# EAGLE library part SOMO_4D_AUDIO (library moja testowa biblioteka)
bla bla bl;a bla bla
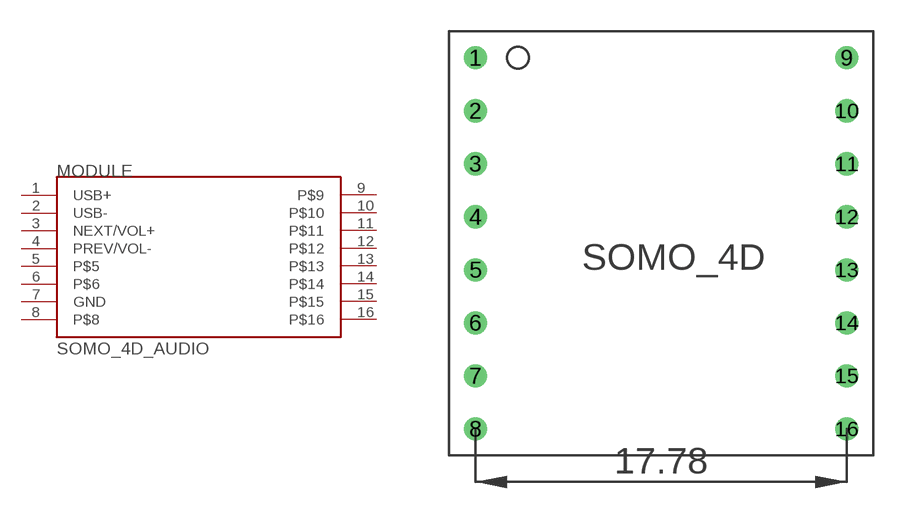
[diagram p0: symbol with the pads of SOMO_MODULE; footprint SOMO_MODULE]

Designator prefix MODULE

## SOMO_4D_AUDIO  [SOMO_MODULE]
1  USB+
2  USB-
3  NEXT/VOL+
4  PREV/VOL-
5  P$5
6  P$6
7  GND  pwr
8  P$8
9  P$9
10  P$10
11  P$11
12  P$12
13  P$13
14  P$14
15  P$15
16  P$16

## Footprint SOMO_MODULE (pad centres in mm)
drill 0.6: 1 -6.35,5.08; 2 -6.35,2.54; 3 -6.35,0; 4 -6.35,-2.54; 5 -6.35,-5.08; 6 -6.35,-7.62; 7 -6.35,-10.16; 8 -6.35,-12.7; 9 11.43,5.08; 10 11.43,2.54; 11 11.43,0; 12 11.43,-2.54; 13 11.43,-5.08; 14 11.43,-7.62; 15 11.43,-10.16; 16 11.43,-12.7